# Altium footprint library DF201607111.PcbLib: 111 footprints (part 4 of 7)
Each footprint in its own frame and in the unit in brackets; x right, y up, seen from the top. Pads: shape width x height; smd on the part's side, far side on the other; paste and mask are expansions set on the pad; w line width, h text height; cw(c..) or ccw(c..) is an arc to the next point about the centre after c.
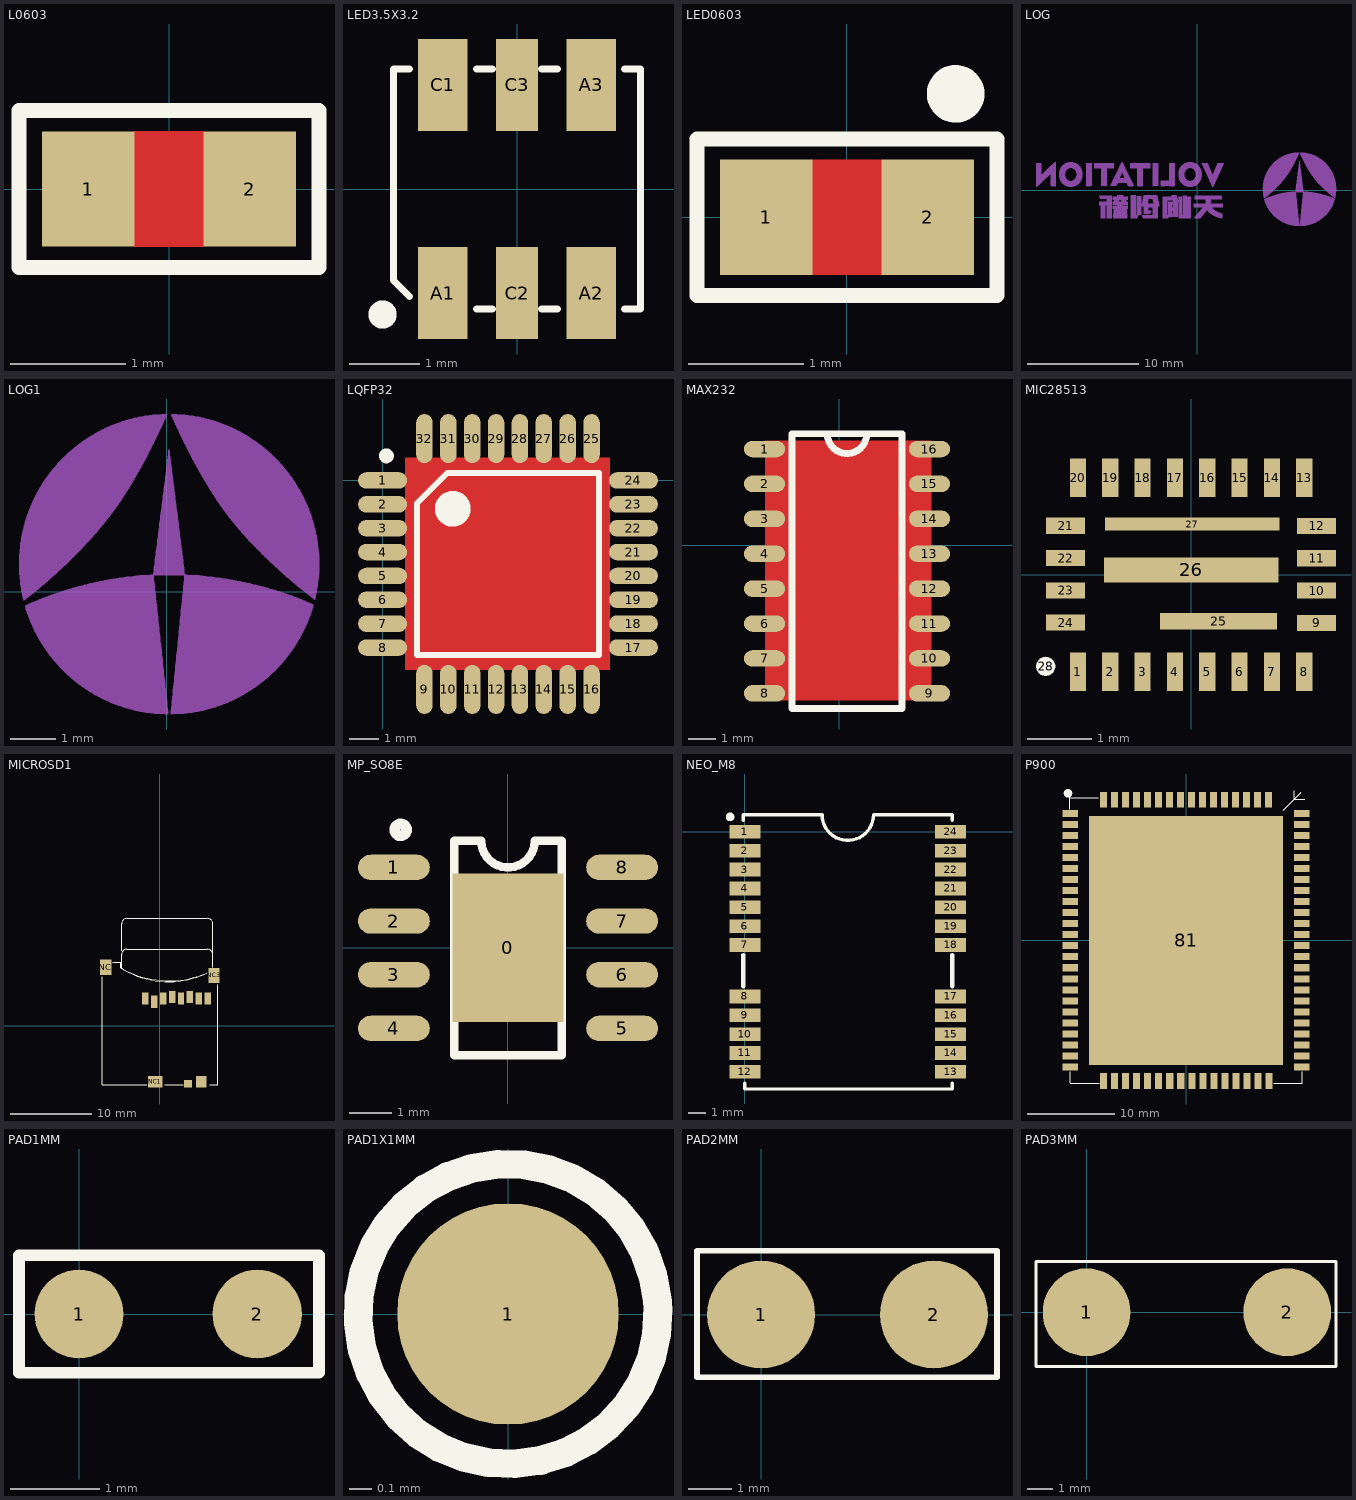
[diagram p3: the footprints below, top view; thin cyan lines are the x and y axes]

## L0603 [mm]
height 0.8
pads (2):
  rect 0.8x1 smd: 1(-0.7,0) 2(0.7,0)
Top Layer:
  pour cut-out: -0.3,0.5 -0.3,-0.5 0.3,-0.5 0.3,0.5
Top Overlay:
  lines w0.13: -1.3,-0.68 -1.3,0.68 1.3,0.68 1.3,-0.68 -1.3,-0.68

## LED3.5X3.2 [mm]
pads (6):
  rect 0.7x1.3 smd: A1(-1.05,-1.475) A2(1.05,-1.475) A3(1.05,1.475) C1(-1.05,1.475)
  rect 0.6x1.3 smd: C2(0,-1.475) C3(0,1.475)
Top Overlay:
  circle w0.2: c-1.905,-1.778 r0.1
  lines w0.1: -1.524,-1.524 -1.75,-1.298 -1.75,1.7 -1.524,1.7 ; -0.576,-1.7 -0.35,-1.7 ; -0.576,1.7 -0.35,1.7 ; 0.35,-1.7 0.576,-1.7 ; 0.35,1.7 0.576,1.7 ; 1.524,-1.7 1.75,-1.7 1.75,1.7 1.524,1.7

## LED0603 [mm]
height 0.8
pads (2):
  rect 0.8x1 smd: 1(-0.7,0) 2(0.7,0)
Top Layer:
  pour cut-out: -0.3,0.5 -0.3,-0.5 0.3,-0.5 0.3,0.5
Top Overlay:
  circle w0.3: c0.941,1.069 r0.1
  lines w0.13: -1.3,-0.68 -1.3,0.68 1.3,0.68 1.3,-0.68 -1.3,-0.68

## LOG [mm]
Bottom Overlay:
  drawing of 9993 lines, arcs and shapes, not listed

## LOG1 [mm]
Bottom Overlay:
  drawing of 2244 lines, arcs and shapes, not listed

## LQFP32 [mm]
pads (32):
  oval 1.65x0.55 smd: 1(0,0) 2(0,-0.8) 3(0,-1.6) 4(0,-2.4) 5(0,-3.2) 6(0,-4) 7(0,-4.8) 8(0,-5.6) 17(8.404,-5.6) 18(8.404,-4.8) 19(8.404,-4) 20(8.404,-3.2) 21(8.404,-2.4) 22(8.404,-1.6) 23(8.404,-0.8) 24(8.404,0)
  oval 0.55x1.65 smd: 9(1.402,-7.002) 10(2.202,-7.002) 11(3.002,-7.002) 12(3.802,-7.002) 13(4.602,-7.002) 14(5.402,-7.002) 15(6.202,-7.002) 16(7.002,-7.002) 25(7.002,1.402) 26(6.202,1.402) 27(5.402,1.402) 28(4.602,1.402) 29(3.802,1.402) 30(3.002,1.402) 31(2.202,1.402) 32(1.402,1.402)
Top Layer:
  pour cut-out: 7.62,0.762 7.62,-6.35 0.762,-6.35 0.762,0.762
Top Overlay:
  circle w0.6: c2.352,-0.95 r0.3
  circle w0.25: c0.127,0.825 r0.125
  lines w0.2: 1.154,-5.848 1.154,-0.768 2.17,0.248 7.25,0.248 7.25,-5.848 1.154,-5.848

## MAX232 [mm]
pads (16):
  oval 1.5x0.6 smd: 1(-2.726,3.498) 2(-2.726,2.228) 3(-2.726,0.958) 4(-2.726,-0.312) 5(-2.726,-1.582) 6(-2.726,-2.852) 7(-2.726,-4.122) 8(-2.726,-5.392) 9(3.274,-5.392) 10(3.274,-4.122) 11(3.274,-2.852) 12(3.274,-1.582) 13(3.274,-0.312) 14(3.274,0.958) 15(3.274,2.228) 16(3.274,3.498)
Top Layer:
  pour cut-out: -2.697,3.79 3.335,3.79 3.335,-5.697 3.272,-5.634 -2.697,-5.634
Top Overlay:
  lines w0.254: -0.444,4.053 ccw(c0.274,4.053) 0.993,4.053 ; -1.726,-5.947 -1.726,4.053 2.274,4.053 2.274,-5.947 -1.726,-5.947

## MIC28513 [mm]
pads (28):
  rect 0.25x0.6 smd: 1(-1.75,-1.5) 2(-1.25,-1.5) 3(-0.75,-1.5) 4(-0.25,-1.5) 5(0.25,-1.5) 6(0.75,-1.5) 7(1.25,-1.5) 8(1.75,-1.5) 13(1.75,1.5) 14(1.25,1.5) 15(0.75,1.5) 16(0.25,1.5) 17(-0.25,1.5) 18(-0.75,1.5) 19(-1.25,1.5) 20(-1.75,1.5)
  rect 0.6x0.25 smd: 9(1.941,-0.745) 10(1.941,-0.245) 11(1.941,0.255) 12(1.941,0.755) 21(-1.943,0.759) 22(-1.943,0.259) 23(-1.943,-0.241) 24(-1.943,-0.741)
  rect 1.81x0.26 smd: 25(0.425,-0.72)
  rect 2.7x0.39 smd: 26(0.001,0.074)
  rect 2.7x0.2 smd: 27(0.018,0.782)
  round 0.3 on Top Overlay: 28(-2.249,-1.417)

## MICROSD1 [mm]
pads (13):
  rect 0.8x1.5 smd: 1(-1.79,3.346) 2(-0.69,2.946) 3(0.41,3.346) 4(1.51,3.545) 5(2.61,3.346) 6(3.71,3.545) 7(4.81,3.346) 8(5.91,3.346)
  rect 1.4x1.9 smd: NC(-6.7,7.195) NC3(6.7,6.195)
  rect 1.8x1.4 smd: NC1(-0.6,-6.954)
  rect 1x0.9 smd: NC2(3.497,-7.195)
  rect 1.3x1.4 smd: NC2(5.1,-6.954)
Top Overlay:
  lines w0.008: -4.75,7.046 -4.75,8.805 cw(c-4.11,8.805) -4.11,9.446 ; -4.75,9.245 -4.75,12.605 cw(c-4.11,12.605) -4.11,13.245 ; -4.11,9.446 5.843,9.446 ; -4.11,13.245 5.843,13.245 cw(c5.843,12.538) 6.55,12.538 ; 5.843,9.445 cw(c5.843,8.738) 6.55,8.738 ; 6.55,7.233 6.55,8.738 ; 6.55,9.046 6.55,12.538
  lines w0.127: -7.15,5.545 -7.15,-7.354 ; -7.15,6.046 -7.15,-7.354 ; -5.842,7.845 -4.85,7.845 -4.85,7.146 ; -1.9,-7.354 -7.15,-7.354 ; -1.65,-7.354 -7.15,-7.354 ; 0.575,-7.354 2.862,-7.354 ; 5.611,6.418 cw(c1.044,16.325) -4.85,7.146 ; 5.874,6.524 cw(c1.124,17.396) -4.85,7.145 ; 6.15,-7.354 7.15,-7.354 ; 6.275,-7.354 7.15,-7.354 ; 7.15,5.074 7.15,-7.354

## MP_SO8E [mm]
height 1.3
pads (9):
  rect 2.62x3.51 smd: 0(0,0)
  oval 1.7x0.6 smd: 1(-2.7,1.905) 2(-2.7,0.635) 3(-2.7,-0.635) 4(-2.7,-1.905) 5(2.7,-1.905) 6(2.7,-0.635) 7(2.7,0.635) 8(2.7,1.905)
Top Overlay:
  circle w0.25: c-2.54,2.794 r0.14
  lines w0.2: -1.27,-2.54 1.27,-2.54 1.27,2.54 0.635,2.54 cw(c0,2.54) -0.635,2.54 -1.27,2.54 -1.27,-2.54

## NEO_M8 [mm]
pads (24):
  rect 1.8x0.8 smd: 1(0,0) 2(0,-1.1) 3(0,-2.2) 4(0,-3.3) 5(0,-4.4) 6(0,-5.5) 7(0,-6.6) 8(0,-9.6) 9(0,-10.7) 10(0,-11.8) 11(0,-12.9) 12(0,-14) 13(12,-14) 14(12,-12.9) 15(12,-11.8) 16(12,-10.7) 17(12,-9.6) 18(12,-6.6) 19(12,-5.5) 20(12,-4.4) 21(12,-3.3) 22(12,-2.2) 23(12,-1.1) 24(12,0)
Top Overlay:
  circle w0.254: c-0.862,0.873 r0.127
  lines w0.2: -0.1,0.662 -0.1,1 4.5,1 ccw(c6,1) 7.5,1 12.1,1 12.1,0.662 ; 0,-14.662 0,-15 12.1,-15 12.1,-14.662
  lines w0.254: -0.1,-9.013 -0.1,-7.184 ; 12.1,-9.013 12.1,-7.184

## P900 [mm]
pads (82):
  rect 1.83x0.81 smd: 1(-13.335,14.632) 2(-13.335,13.362) 3(-13.335,12.092) 4(-13.335,10.822) 5(-13.335,9.552) 6(-13.335,8.282) 7(-13.335,7.012) 8(-13.335,5.742) 9(-13.335,4.472) 10(-13.335,3.202) 11(-13.335,1.932) 12(-13.335,0.662) 13(-13.335,-0.608) 14(-13.335,-1.878) 15(-13.335,-3.148) 16(-13.335,-4.418) 17(-13.335,-5.688) 18(-13.335,-6.958) 19(-13.335,-8.228) 20(-13.335,-9.498) 21(-13.335,-10.768) 22(-13.335,-12.038) 23(-13.335,-13.308) 24(-13.335,-14.578) 41(13.335,-14.578) 42(13.335,-13.308) 43(13.335,-12.038) 44(13.335,-10.768) 45(13.335,-9.498) 46(13.335,-8.228) 47(13.335,-6.958) 48(13.335,-5.688) 49(13.335,-4.418) 50(13.335,-3.148) 51(13.335,-1.878) 52(13.335,-0.608) 53(13.335,0.662) 54(13.335,1.932) 55(13.335,3.202) 56(13.335,4.472) 57(13.335,5.742) 58(13.335,7.012) 59(13.335,8.282) 60(13.335,9.552) 61(13.335,10.822) 62(13.335,12.092) 63(13.335,13.362) 64(13.335,14.632)
  rect 0.81x1.83 smd: 25(-9.493,-16.204) 26(-8.223,-16.204) 27(-6.953,-16.204) 28(-5.683,-16.204) 29(-4.413,-16.204) 30(-3.143,-16.204) 31(-1.873,-16.204) 32(-0.603,-16.204) 33(0.667,-16.204) 34(1.937,-16.204) 35(3.207,-16.204) 36(4.477,-16.204) 37(5.747,-16.204) 38(7.017,-16.204) 39(8.287,-16.204) 40(9.557,-16.204) 65(9.525,16.204) 66(8.255,16.204) 67(6.985,16.204) 68(5.715,16.204) 69(4.445,16.204) 70(3.175,16.204) 71(1.905,16.204) 72(0.635,16.204) 73(-0.635,16.204) 74(-1.905,16.204) 75(-3.175,16.204) 76(-4.445,16.204) 77(-5.715,16.204) 78(-6.985,16.204) 79(-8.255,16.204) 80(-9.525,16.204)
  rect 22.35x28.7 smd: 81(0,0)
  round 1 on Top Overlay: 82(-13.592,16.946)
Top Overlay:
  lines w0.13: -13.381,15.116 -13.381,16.416 ; -13.381,16.454 -10.085,16.454 ; -13.308,-16.447 -10.013,-16.447 ; -13.308,-16.408 -13.308,-15.108 ; 10.107,-16.471 13.402,-16.471 ; 11.203,15.023 13.268,17.088 ; 12.45,16.283 13.661,16.283 ; 12.468,16.294 12.468,17.245 ; 13.402,-16.433 13.402,-15.132

## PAD1MM [mm]
pads (2):
  round 1 smd: 1(0,0) 2(2,0)
Top Overlay:
  lines w0.13: -0.673,-0.66 2.692,-0.66 2.692,0.66 -0.673,0.66 -0.673,-0.66

## PAD1X1MM [mm]
pads (1):
  round 1 smd: 1(0,0)
Top Overlay:
  lines w0.13: 0.675,0.052 ccw(c0,0) 0.677,0.024

## PAD2MM [mm]
pads (2):
  round 2.5 smd: 1(0,0) 2(4,0)
Top Overlay:
  lines w0.13: -1.486,-1.448 5.461,-1.448 5.461,1.473 -1.486,1.473 -1.486,-1.448

## PAD3MM [mm]
pads (2):
  round 3.5 smd: 1(0,0) 2(8,0)
Top Overlay:
  lines w0.13: -2.019,-2.159 9.944,-2.159 9.944,2.019 -2.019,2.019 -2.019,-2.159